# Altium schematic symbol library AIRZAI_BASE_BD_REVA.SCHLIB: 43 symbols
Pins are listed as number, name and electrical type; pins without a type are passive.

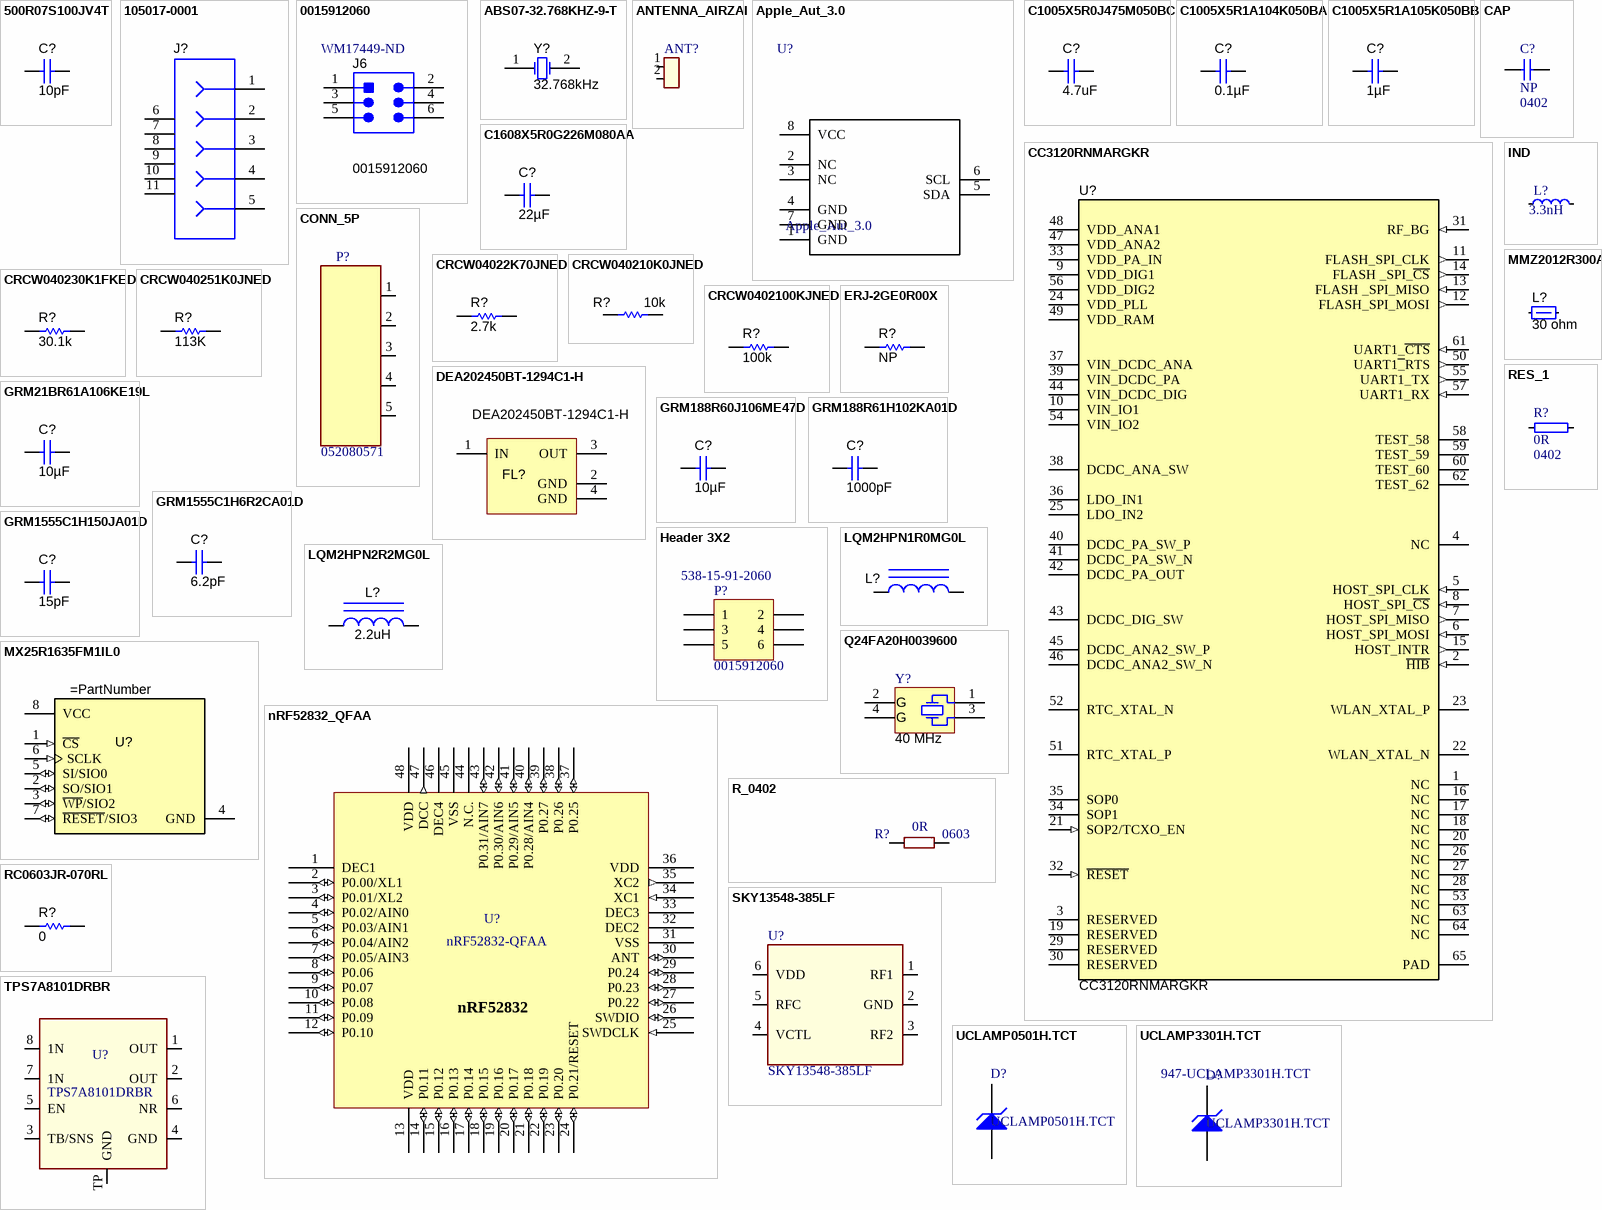
[diagram p0: symbols 500R07S100JV4T to UCLAMP3301H.TCT]

## 500R07S100JV4T
designator C?  ValueDisplayed: 10pF
CAP, CERM, 10 pF, 50 V, +/- 5%, C0G/NP0, 0402; Manufacturer Part Number: 500R07S100JV4T; Manufacturer: Johanson Technology; Value: 10pF; Tolerance_%: 5; VDC_V: 50; Value2: 50V
footprint SM0402_BTD.1SM_ACT_H55_CAP_WSS
pins: 1, 2

## 105017-0001
designator J?  (value not drawn)
Connector, Receptacle, Micro-USB Type B, R/A, Bottom Mount SMT; Manufacturer: Molex; SymbolCreator: a0412235; U/M: EA; SymbolVersion: 2012-12-19; PartNumber: 105017-0001; PackageReference: Micro USB receptacle; CompType: Receptacle; RoHS: Y; MountType: SMT; ComponentLink1Description: Datasheet Link; ComponentLink1URL: http://www.molex.com/pdm_docs/sd/1050170001_sd.pdf; Publisher: Texas Instruments; LatestRevisionDate: 2015-06-05; Supplier 1: Digi-Key; Supplier Part Number 1: WM1399CT-ND; Supplier 2: Mouser; Supplier Part Number 2: 538-105017-0001; Supplier 3: Farnell; Supplier Part Number 3: 1847433
footprint CONN_105017-0001
pins: 1, 2, 3, 4, 5, 6, 7, 8, 9, 10, 11

## 0015912060
designator J6  Supplier Part Number 1: WM17449-ND
CONN HEADER SMD 6POS 2.54MM; Manufacturer: Molex; Number of Positions: 6; Gender: Male; Max Voltage Rating (AC): 250V; Connector Type: Male Pin; Row Spacing: 0.1inch; PartNumber: 0015912060; ComponentLink1Description: Datasheet URL; ComponentLink1URL: https://www.samtec.com/ftppub/cpdf/FTSH-1XX-XX-XXX-D-XX-MKT.pdf; Supplier 1: Digi-Key; Manufacturer Part Number: 0015912060; Stock 1: 16201; Pricing 1: 1=0.59, 10=0.549, 100=0.4209, 500=0.366, 1000=0.30195, 5000=0.26535, 10000=0.24705 (USD); Mount: Surface Mount; Contact Plating: Bright,Tin; Contact Material: Bronze; Housing Color: Black; Housing Material: Polymer; Color: Black; Min Operating Temperature: -40°C; Max Operating Temperature: 105°C; Packaging: Bulk; Number of Rows: 2; Termination: Solder; Number of Contacts: 6; Orientation: Straight; Length: 7.62mm; Pitch: 2.54mm; Contact Mating Length: 0.24inch; Depth: 5.08mm; ComponentLink2URL: https://media.digikey.com/pdf/Data%20Sheets/Molex%20PDFs/PK-70873-0041_Pkg_Dwg.pdf?src-supplier=Digi-Key; ComponentLink2Description: https://media.digikey.com/pdf/Data%20Sheets/Molex%20PDFs/PK-70873-0041_Pkg_Dwg.pdf?src-supplier=Digi-Key
footprint Molex_15-91-2060_0
pins: 1, 2, 3, 4, 5, 6

## ABS07-32.768KHZ-9-T
designator Y?  Frequency: 32.768kHz  (hidden comment: ABS07-32.768KHZ-9-T)
CRYSTAL, 32.768KHZ, 9PF, SMD; Manufacturer: Abracon Corportation; SymbolCreator: a0412235; U/M: EA; TaMin_C: -40; TaMax_C: 85; Frequency Stability: ±20ppm; SymbolVersion: 2008-07-09; PartNumber: ABS07-32.768KHZ-9-T; CompType: Crystal; PackageReference: 3.2x0.9x1.5mm; MountType: SMT; RoHS: Y; ComponentLink1Description: Datasheet Link; ComponentLink1URL: http://www.abracon.com/Resonators/ABS07.pdf; Publisher: Texas Instruments; LatestRevisionDate: 2015-02-16; Supplier 1: Digi-Key; Supplier Part Number 1: 535-9544-1-ND; Supplier 2: Mouser; Supplier Part Number 2: 815-ABS07-32.768K9T; Supplier 3: Farnell; Supplier Part Number 3: 2101346
footprint XTAL_ABS07
pins: 1 OSC1, 2 OSC2

## ANTENNA_AIRZAI
designator ANT?
Footprint: ANTENNA_AIRZAI; Note: *
footprint ANTENNA_AIRZAI
pins: 1 +, 2 -

## Apple_Aut_3.0
designator U?
Apple Authentication 3.0 Coprocessor
footprint *SOT65P210X110-6N
pins: 1 GND, 2 NC, 3 NC, 4 GND, 5 SDA, 6 SCL, 7 GND, 8 VCC (power)

## C1005X5R0J475M050BC
designator C?  value 4.7uF  (hidden comment: C1005X5R0J475M050BC)
CAP, CERM, 4.7 µF, 6.3 V, +/- 20%, X5R, 0402; Manufacturer: TDK; PartNumber: C1005X5R0J475M050BC
footprint SM0402_BTD.1SM_ACT_H55_CAP_WSS
pins: 1, 2

## C1005X5R1A104K050BA
designator C?  ValueDisplayed: 0.1µF  (hidden comment: C1005X5R1A104K050BA)
CAP, CERM, 0.1 µF, 10 V, +/- 10%, X5R, 0402; Manufacturer: TDK; Polarized: N; CompType: Capacitor; Value: 0.1uF; U/M: EA; Cap_F: 0.0000001; Tolerance_%: 10; Value1: Unknown; Value2: 10V; TaMin_C: -55; TaMax_C: 85; Cap_Case: 0402; SymbolVersion: 2008-07-09; PartNumber: C1005X5R1A104K050BA; PackageReference: 0402; RoHS: Y; VDC_V: 10; MountType: SMT; Technology: Ceramic; TempCo: X5R; Published: 2008-06-19; Publisher: Texas Instruments; LatestRevisionDate: 2015-02-23; ComponentLink1Description: Datasheet link; ComponentLink1URL: http://product.tdk.com/en/catalog/datasheets/mlcc_commercial_general_en.pdf; Supplier 1: Digi-Key; Supplier Part Number 1: 445-1265-1-ND; Supplier 2: Mouser; Supplier Part Number 2: 810-C1005X5R1A104K; Supplier 3: Farnell; Supplier Part Number 3: 2368215
footprint SM0402_BTD.1SM_ACT_H55_CAP_WSS
pins: 1, 2

## C1005X5R1A105K050BB
designator C?  ValueDisplayed: 1µF  (hidden comment: C1005X5R1A105K050BB)
CAP, CERM, 1 µF, 10 V, +/- 10%, X5R, 0402; Manufacturer: TDK; Polarized: N; CompType: Capacitor; Value: 1uF; U/M: EA; Cap_F: 0.000001; Tolerance_%: 10; Value1: Unknown; Value2: 10V; TaMin_C: -55; TaMax_C: 85; Cap_Case: 0402; SymbolVersion: 2008-07-09; PartNumber: C1005X5R1A105K050BB; PackageReference: 0402; RoHS: Y; VDC_V: 10; MountType: SMT; Technology: Ceramic; TempCo: X5R; Published: 2008-06-19; Publisher: Texas Instruments; LatestRevisionDate: 2015-02-23; ComponentLink1Description: Datasheet link; ComponentLink1URL: http://product.tdk.com/en/catalog/datasheets/mlcc_commercial_general_en.pdf; Supplier 1: Digi-Key; Supplier Part Number 1: 445-4114-1-ND; Supplier 2: Mouser; Supplier Part Number 2: 810-C1005X5R1A105K; Supplier 3: Farnell; Supplier Part Number 3: 2371912
footprint SM0402_BTD.1SM_ACT_H55_CAP_WSS
pins: 1, 2

## C1608X5R0G226M080AA
designator C?  ValueDisplayed: 22µF  (hidden comment: C1608X5R0G226M080AA)
CAP, CERM, 22 µF, 4 V, +/- 20%, X5R, 0603; Manufacturer: TDK; Polarized: N; CompType: Capacitor; Value: 22uF; U/M: EA; Cap_F: 0.000022; Tolerance_%: 20; Value1: Unknown; VDC_V: 4; Value2: 4V; TaMin_C: -55; TaMax_C: 85; Cap_Case: 0603; SymbolVersion: 2008-07-09; PartNumber: C1608X5R0G226M080AA; PackageReference: 0603; RoHS: Y; MountType: SMT; Technology: Ceramic; TempCo: X5R; Published: 2008-06-19; Publisher: Texas Instruments; LatestRevisionDate: 2015-02-23; ComponentLink1Description: Datasheet link; ComponentLink1URL: http://www.tdk.com/pdf/TDKMLCCCapRange.pdf; Supplier 1: Digi-Key; Supplier Part Number 1: 445-8030-1-ND
footprint SM0603_BTD.1SM_H90_WSS
pins: 1, 2

## CAP
designator C?, comment NP  Footprint: 0402
NOT POPULATED; Manufacturer: NOT POPULATED; Manufacturer Part Number: NOT POPULATED; Datasheet: *; Pin Count: 2; Value: NP; Note: NOT POPULATED; Supplier: *; Supplier part number: *; 2nd source Supplier: *; 2nd source part number: *
footprint SM0402_BTD.1SM_NP_H1
pins: 1, 2

## CC3120RNMARGKR
designator U?
SimpleLink Wi-Fi Network Processor, Internet-of-Things Solution for MCU Applications, RGK0064B (VQFN-64); Alternate PartNumber: CC3120RNMARGKT; Manufacturer: Texas Instruments; SymbolCreator: Altium; CompType: IC; U/M: EA; SizeArea_mm2: 81; SizeAreaWB_mm2: 121; SizeX_mm: 9; SizeZ_mm: 1; SymbolVersion: 2015-09-04; PartNumber: CC3120RNMARGKR; PackageReference: RGK0064B; MountType: SMT; ComponentLink1Description: Datasheet Link; ComponentLink1URL: https://sps06.itg.ti.com/sites/KMS/crossdivteams/altium/docs/ComponentDatasheets/CC3120_Advanced_Information_July2015.pdf; Publisher: Texas Instruments; LatestRevisionDate: 2016-11-18; Alternate Manufacturer: Texas Instruments; PackageDescription: VQFN-64; SizeY_mm: 9
footprint RGK0064B
pins: 1 NC, 2 ~{HIB} (in), 3 RESERVED, 4 NC, 5 HOST_SPI_CLK (in), 6 HOST_SPI_MOSI (in), 7 HOST_SPI_MISO (out), 8 HOST_SPI_~{CS} (in), 9 VDD_DIG1 (power), 10 VIN_IO1 (power), 11 FLASH_SPI_CLK (out), 12 FLASH_SPI_MOSI (out), 13 FLASH _SPI_MISO (in), 14 FLASH _SPI_~{CS} (out), 15 HOST_INTR (out), 16 NC, 17 NC, 18 NC, 19 RESERVED, 20 NC, 21 SOP2/TCXO_EN (in), 22 WLAN_XTAL_N, 23 WLAN_XTAL_P, 24 VDD_PLL (power), 25 LDO_IN2 (power), 26 NC, 27 NC, 28 NC, 29 RESERVED, 30 RESERVED, 31 RF_BG (in), 32 ~{RESET} (in), 33 VDD_PA_IN (power), 34 SOP1, 35 SOP0, 36 LDO_IN1 (power), 37 VIN_DCDC_ANA (power), 38 DCDC_ANA_SW (power), 39 VIN_DCDC_PA (power), 40 DCDC_PA_SW_P (power), 41 DCDC_PA_SW_N (power), 42 DCDC_PA_OUT (power), 43 DCDC_DIG_SW (power), 44 VIN_DCDC_DIG (power), 45 DCDC_ANA2_SW_P (power), 46 DCDC_ANA2_SW_N (power), 47 VDD_ANA2 (power), 48 VDD_ANA1 (power), 49 VDD_RAM (power), 50 UART1~{_}RTS (out), 51 RTC_XTAL_P, 52 RTC_XTAL_N, 53 NC, 54 VIN_IO2 (power), 55 UART1_TX (out), 56 VDD_DIG2 (power), 57 UART1_RX (in), 58 TEST_58, 59 TEST_59, 60 TEST_60, 61 UART1_~{CTS} (in), 62 TEST_62, 63 NC, 64 NC, 65 PAD (power)
1 alternate drawing of the same symbol

## CONN_5P
designator P?, comment 052080571
Manufacturer: MOLEX; Manufacturer Part Number: 052080571; Footprint: CON_052080571_5PIN; Value: 052080571
footprint CON_052080571_5PIN (MOLEX 5PIN)
pins: 1, 2, 3, 4, 5 4

## CRCW04022K70JNED
designator R?  ValueDisplayed: 2.7k  (hidden comment: CRCW04022K70JNED)
RES, 2.7 k, 5%, 0.063 W, 0402; Manufacturer: Vishay-Dale; CompType: Resistor; Value: 2.7k; Res_ohm: 2700; Value_Code: 2k70; Tolerance_%: 5; Power_W: 0.063; Value2: 0.063W; VDC_V: 50; TempCo: 200 ppm/C; EIA_Code: E24; U/M: EA; SizeArea_mm2: 0.5; SizeX_mm: 1; SizeZ_mm: 0.6; AEC Category: Q200; SymbolVersion: 2009-05-29; PartNumber: CRCW04022K70JNED; PackageReference: 0402; RoHS: Y; Value1: 5%; MountType: SMT; Technology: Thick Film; Published: 2008-06-26; Publisher: Texas Instruments; LatestRevisionDate: 2016-12-01; ComponentLink1Description: Datasheet link; ComponentLink1URL: http://www.vishay.com/docs/20035/dcrcwe3.pdf; Supplier 1: Digi-Key; Supplier Part Number 1: 541-2.7KJCT-ND; Supplier 2: Mouser; Supplier Part Number 2: 71-CRCW0402J-2.7K-E3; Supplier 3: Farnell; Supplier Part Number 3: 1563903; SizeY_mm: 0.5; AEC Qualified: ?
footprint SM0402_BTD.1SM_ACT
pins: 1, 2

## CRCW040210K0JNED
designator R?  ValueDisplayed: 10k  (hidden comment: CRCW040210K0JNED)
RES, 10 k, 5%, 0.063 W, 0402; Manufacturer: Vishay-Dale; CompType: Resistor; Value: 10k; Res_ohm: 10000; Value_Code: 10k0; Tolerance_%: 5; Power_W: 0.063; Value2: 0.063W; VDC_V: 50; TempCo: 200 ppm/C; EIA_Code: E24; U/M: EA; SymbolVersion: 2009-05-29; PartNumber: CRCW040210K0JNED; PackageReference: 0402; RoHS: Y; Value1: 5%; MountType: SMT; Technology: Thick Film; Published: 2008-06-26; Publisher: Texas Instruments; LatestRevisionDate: 2015-02-16; ComponentLink1Description: Datasheet link; ComponentLink1URL: http://www.vishay.com/docs/20035/dcrcwe3.pdf; Supplier 1: Digi-Key; Supplier Part Number 1: 541-10KJCT-ND; Supplier 2: Mouser; Supplier Part Number 2: 71-CRCW0402J-10K-E3; Supplier 3: Farnell; Supplier Part Number 3: 1514663
footprint SM0402_BTD.1SM_ACT
pins: 1, 2

## CRCW040230K1FKED
designator R?  ValueDisplayed: 30.1k  (hidden comment: CRCW040230K1FKED)
RES, 30.1 k, 1%, 0.063 W, 0402; Manufacturer: Vishay-Dale; CompType: Resistor; Value: 30.1k; Res_ohm: 30100; Value_Code: 30k1; Tolerance_%: 1; Power_W: 0.063; Value2: 0.063W; VDC_V: 50; TempCo: 100 ppm/C; EIA_Code: E96; U/M: EA; SymbolVersion: 2009-05-29; PartNumber: CRCW040230K1FKED; PackageReference: 0402; RoHS: Y; Value1: 1%; MountType: SMT; Technology: Thick Film; Published: 2008-06-26; Publisher: Texas Instruments; LatestRevisionDate: 2015-02-16; ComponentLink1Description: Datasheet link; ComponentLink1URL: http://www.vishay.com/docs/20035/dcrcwe3.pdf; Supplier 1: Digi-Key; Supplier Part Number 1: 541-30.1KLCT-ND; Supplier 2: Mouser; Supplier Part Number 2: 71-CRCW0402-30.1K-E3; Supplier 3: Farnell; Supplier Part Number 3: 1469704
footprint SM0402_BTD.1SM_ACT
pins: 1, 2

## CRCW040251K0JNED
designator R?  value 113K
RES, 51 k, 5%, 0.063 W, 0402; Manufacturer: Vishay-Dale; Footprint: SM0402_BTD.1SM_ACT
footprint SM0402_BTD.1SM_ACT
pins: 1, 2

## CRCW0402100KJNED
designator R?  ValueDisplayed: 100k  (hidden comment: CRCW0402100KJNED)
RES, 100 k, 5%, 0.063 W, 0402; Manufacturer: Vishay-Dale; CompType: Resistor; Value: 100k; Res_ohm: 100000; Tolerance_%: 5; Power_W: 0.063; Value2: 0.063W; VDC_V: 50; TempCo: 200 ppm/C; EIA_Code: E24; U/M: EA; SymbolVersion: 2009-05-29; PartNumber: CRCW0402100KJNED; PackageReference: 0402; RoHS: Y; Value_Code: 100k; Value1: 5%; MountType: SMT; Technology: Thick Film; Published: 2008-06-26; Publisher: Texas Instruments; LatestRevisionDate: 2015-02-16; ComponentLink1Description: Datasheet link; ComponentLink1URL: http://www.vishay.com/docs/20035/dcrcwe3.pdf; Supplier 1: Digi-Key; Supplier Part Number 1: 541-100KJCT-ND; Supplier 2: Mouser; Supplier Part Number 2: 71-CRCW0402J-100K-E3; Supplier 3: Farnell; Supplier Part Number 3: 1652738
footprint SM0402_BTD.1SM_ACT
pins: 1, 2

## DEA202450BT-1294C1-H
designator FL?
Multilayer Chip Band Pass Filter For 2.4GHz W-LAN/Bluetooth, SMD; Manufacturer: TDK; SymbolCreator: Altium; Value: 1.02 dB; SymbolVersion: 2015-01-04; PartNumber: DEA202450BT-1294C1-H; CompType: Filter; MountType: SMT; ComponentLink1Description: Datasheet Link; ComponentLink1URL: http://product.tdk.com/en/catalog/datasheets/rf_bpf_dea202450bt-1294c1-h_en.pdf; RoHS: Y; PackageReference: 2x1.25mm; Publisher: Texas Instruments; LatestRevisionDate: 2015-02-19; Supplier 1: Digi-Key; Supplier Part Number 1: 445-172335-1-ND; Supplier 2: Mouser; Supplier Part Number 2: 810-DEA202450BT1294C
footprint TDK_DEA202450BT-1294C1-H
pins: 1 IN, 2 GND (power), 3 OUT, 4 GND (power)

## ERJ-2GE0R00X
designator R?, comment NP
RES, 0, 5%, 0.063 W, 0402; PartNumber: ERJ-2GE0R00X; Manufacturer: Panasonic; CompType: Resistor; ValueDisplayed: 0; Value_Code: 0000; Tolerance_%: 5; Power_W: 0.063; Value2: 0.063W; VDC_V: 50; TempCo: 600 ppm/C; EIA_Code: E24; U/M: EA; SymbolVersion: 2009-05-29; Value: NP; PackageReference: SM0402_BTD.1SM_NP_H1; RoHS: Y; Res_ohm: 0; Value1: 5%; MountType: SMT; Technology: Thick Film; Published: 2008-06-26; Publisher: Texas Instruments; LatestRevisionDate: 2015-02-16; ComponentLink1Description: Datasheet link; ComponentLink1URL: http://www.panasonic.com/industrial/components/pdf/AOA0000CE1.pdf; Supplier 1: Digi-Key; Supplier Part Number 1: P0.0JCT-ND; Supplier 2: Mouser; Supplier Part Number 2: 667-ERJ-2GE0R00X; Supplier 3: Farnell; Supplier Part Number 3: 2059190
footprint SM0402_BTD.1SM_NP_H1
pins: 1, 2

## GRM21BR61A106KE19L
designator C?  ValueDisplayed: 10µF  (hidden comment: GRM21BR61A106KE19L)
CAP, CERM, 10 µF, 10 V, +/- 10%, X5R, 0805; Manufacturer: MuRata; Polarized: N; CompType: Capacitor; Value: 10uF; U/M: EA; Cap_F: 0.00001; Tolerance_%: 10; ESR_ohm: 0.002; Value1: 0.002 ohm; Value2: 10V; TaMin_C: -55; TaMax_C: 85; Cap_Case: 0805; SymbolVersion: 2008-07-09; PartNumber: GRM21BR61A106KE19L; PackageReference: 0805; RoHS: Y; VDC_V: 10; MountType: SMT; Technology: Ceramic; TempCo: X5R; Published: 2008-06-19; Publisher: Texas Instruments; LatestRevisionDate: 2015-02-23; ComponentLink1Description: Datasheet link; ComponentLink1URL: http://search.murata.co.jp/Ceramy/PnsearchViewAction.do?HnOFG=ON&HnNFG=ON&SEL_CNT=50&sLang=en&sKey=GRM21BR61A106KE19L&x=9&y=9&search=startwith; Supplier 1: Digi-Key; Supplier Part Number 1: 490-1709-1-ND; Supplier 2: Mouser; Supplier Part Number 2: 81-GRM21BR61A106KE19; Supplier 3: Farnell; Supplier Part Number 3: 1828805
signal-integrity model Cap
simulation model Cap
footprint 0805_HV
footprint 0805
footprint 0805M
footprint 0805L
pins: 1, 2

## GRM188R60J106ME47D
designator C?  ValueDisplayed: 10µF  (hidden comment: GRM188R60J106ME47D)
CAP, CERM, 10 µF, 6.3 V, +/- 20%, X5R, 0603; Manufacturer: MuRata; Polarized: N; CompType: Capacitor; Value: 10uF; U/M: EA; Cap_F: 0.00001; Tolerance_%: 20; ESR_ohm: 0.009; Value1: 0.009 ohm; VDC_V: 6.3; Value2: 6.3V; IRMS_A: 2.74; TaMin_C: -55; TaMax_C: 125; Cap_Case: 0603; SymbolVersion: 2008-07-09; PartNumber: GRM188R60J106ME47D; PackageReference: 0603; RoHS: Y; MountType: SMT; Technology: Ceramic; TempCo: X5R; Published: 2008-06-19; Publisher: Texas Instruments; LatestRevisionDate: 2015-02-23; ComponentLink1Description: Datasheet link; ComponentLink1URL: http://www.murata.com/products/capacitor/tech_data/pdf/grm188r60j106m.pdf; Supplier 1: Digi-Key; Supplier Part Number 1: 490-3896-1-ND; Supplier 2: Mouser; Supplier Part Number 2: 81-GRM188R60J106ME47; Supplier 3: Farnell; Supplier Part Number 3: 1735528
footprint SM0603_BTD.1SM_H90_WSS
pins: 1, 2

## GRM188R61H102KA01D
designator C?  ValueDisplayed: 1000pF  (hidden comment: GRM188R61H102KA01D)
CAP, CERM, 1000 pF, 50 V, +/- 10%, X5R, 0603; Manufacturer: MuRata; Polarized: N; CompType: Capacitor; Value: 1000pF; U/M: EA; Cap_F: 0.000000001; Tolerance_%: 10; Value1: Unknown; VDC_V: 50; Value2: 50V; TaMin_C: -55; TaMax_C: 85; Cap_Case: 0603; SymbolVersion: 2008-07-09; PartNumber: GRM188R61H102KA01D; PackageReference: 0603; RoHS: Y; MountType: SMT; Technology: Ceramic; TempCo: X5R; Published: 2008-06-19; Publisher: Texas Instruments; LatestRevisionDate: 2014-12-18; ComponentLink1Description: Datasheet link; ComponentLink1URL: http://search.murata.co.jp/Ceramy/PnsearchViewAction.do?HnOFG=ON&HnNFG=ON&SEL_CNT=50&sLang=en&sKey=GRM188R61H102KA01D&x=9&y=9&search=startwith; Supplier 1: Digi-Key; Supplier Part Number 1: GRM188R61H102KA01D-ND; Supplier 2: Mouser; Supplier Part Number 2: 81-GRM188R61H102KA1D
footprint SM0603_BTD.1SM_H90_WSS
pins: 1, 2

## GRM1555C1H6R2CA01D
designator C?  ValueDisplayed: 6.2pF  (hidden comment: GRM1555C1H6R2CA01D)
CAP, CERM, 6.2 pF, 50 V, +/- 5%, C0G/NP0, 0402; Manufacturer: MuRata; Polarized: N; CompType: Capacitor; Value: 6.2pF; U/M: EA; Cap_F: 0.0000000000062; Tolerance_%: 5; Value1: Unknown; VDC_V: 50; Value2: 50V; TaMin_C: -55; TaMax_C: 125; Cap_Case: 0402; SymbolVersion: 2008-07-09; PartNumber: GRM1555C1H6R2CA01D; PackageReference: 0402; RoHS: Y; MountType: SMT; Technology: Ceramic; TempCo: C0G/NP0; Published: 2008-06-19; Publisher: Texas Instruments; LatestRevisionDate: 2015-02-23; ComponentLink1Description: Datasheet link; ComponentLink1URL: http://search.murata.co.jp/Ceramy/PnsearchViewAction.do?HnOFG=ON&HnNFG=ON&SEL_CNT=50&sLang=en&sKey=GRM1555C1H6R2CA01D&x=9&y=9&search=startwith; Supplier 1: Mouser; Supplier Part Number 1: 81-GRM1555C1H6R2CA1D
footprint SM0402_BTD.1SM_ACT_H55_CAP_WSS
pins: 1, 2

## GRM1555C1H150JA01D
designator C?  ValueDisplayed: 15pF  (hidden comment: GRM1555C1H150JA01D)
CAP, CERM, 15 pF, 50 V, +/- 5%, C0G/NP0, 0402; Manufacturer: MuRata; Polarized: N; CompType: Capacitor; Value: 15pF; U/M: EA; Cap_F: 0.000000000015; Tolerance_%: 5; Value1: Unknown; VDC_V: 50; Value2: 50V; TaMin_C: -55; TaMax_C: 125; Cap_Case: 0402; SymbolVersion: 2008-07-09; PartNumber: GRM1555C1H150JA01D; PackageReference: 0402; RoHS: Y; MountType: SMT; Technology: Ceramic; TempCo: C0G/NP0; Published: 2008-06-19; Publisher: Texas Instruments; LatestRevisionDate: 2015-02-23; ComponentLink1Description: Datasheet link; ComponentLink1URL: http://search.murata.co.jp/Ceramy/PnsearchViewAction.do?HnOFG=ON&HnNFG=ON&SEL_CNT=50&sLang=en&sKey=GRM1555C1H150JA01D&x=9&y=9&search=startwith; Supplier 1: Mouser; Supplier Part Number 1: 81-GRM1555C1H150JA1D
footprint SM0402_BTD.1SM_ACT_H55_CAP_WSS
pins: 1, 2

## Header 3X2
designator P?, comment 0015912060  Supplier Part Number 1: 538-15-91-2060
Header, 3-Pin, Dual row; Manufacturer: Molex; Number of Positions: 6; Gender: Male; Max Voltage Rating (AC): 250V; Connector Type: Male Pin; Pitch: 2.54mm; Row Spacing: 0.1inch; Value: 0015912060; Supplier 1: Mouser; Manufacturer Part Number: 0015912060; Stock 1: 12899; Pricing 1: 1=0.53, 10=0.499, 50=0.399, 100=0.382, 1000=0.274, 10000=0.249 (USD); Mount: Surface Mount; Contact Plating: Bright,Tin; Contact Material: Bronze; Housing Color: Black; Housing Material: Polymer; Color: Black; Min Operating Temperature: -40°C; Max Operating Temperature: 105°C; Packaging: Bulk; Number of Rows: 2; Termination: Solder; Number of Contacts: 6; Orientation: Straight; Length: 7.62mm; Contact Mating Length: 0.24inch; Depth: 5.08mm; ComponentLink1URL: https://media.digikey.com/pdf/Data%20Sheets/Molex%20PDFs/PK-70873-0041_Pkg_Dwg.pdf?src-supplier=Digi-Key; ComponentLink1Description: https://media.digikey.com/pdf/Data%20Sheets/Molex%20PDFs/PK-70873-0041_Pkg_Dwg.pdf?src-supplier=Digi-Key
signal-integrity model Connector
footprint Molex_15-91-2060_0
pins: 1, 2, 3, 4, 5, 6

## IND
designator L?, comment 3.3nH
High frequency chip inductor ±5%; Manufacturer: JOHANSON; Manufacturer Part Number: L-07C3N3SV6T; Pin Count: 2; Value: 3.3nH; Note: High frequency chip inductor ±5%; Supplier: Digi-Key; 2nd source Supplier: *; 2nd source part number: *; Footprint Doc: 0402
footprint INDC1005X04L (Chip Inductor, 2-Leads, Body 1.0x0.5mm, IPC High Density)
pins: 1, 2

## LQM2HPN1R0MG0L
designator L?  (value not drawn)
Inductor, Multilayer, Ferrite, 1 µH, 1.6 A, 0.055 ohm, SMD; Manufacturer: MuRata; Value: 1uH; Ind_H: 1.0E-6; ValueDisplayed: 1µH; Imax_A: 1.6; Irms: 1.6A @ 40C rise; DCR_ohm: 0.055; Value2: 1.6A; SymbolVersion: 2008-07-23; CompType: Inductor; PartNumber: LQM2HPN1R0MG0L; Value1: 0.055 ohm; Technology: Multilayer; MountType: SMT; Material: Ferrite; PackageReference: SMD, Body 2.5x2mm, Height 1.2mm; Published: 2008-06-26; Publisher: Texas Instruments; LatestRevisionDate: 2015-03-02; ComponentLink1Description: Datasheet link; ComponentLink1URL: http://psearch.murata.com/inductor/product/LQM2HPN1R0MG0%23.pdf; RoHS: Y; Supplier 1: Digi-Key; Supplier Part Number 1: 490-5112-1-ND; Supplier 2: Mouser; Supplier Part Number 2: 81-LQM2HPN1R0MG0L
signal-integrity model Inductor
simulation model Inductor
footprint 1008
pins: 1, 2

## LQM2HPN2R2MG0L
designator L?  value 2.2uH  (hidden comment: LQM2HPN2R2MG0L)
Inductor, Multilayer, Ferrite, 2.2 µH, 1.3 A, 0.08 ohm, SMD; Manufacturer: MuRata; Ind_H: 2.2E-6; ValueDisplayed: 2.2µH; Imax_A: 1.3; Irms: 1.3A @ 40C rise; DCR_ohm: 0.08; Value2: 1.3A; SymbolVersion: 2008-07-23; CompType: Inductor; PartNumber: LQM2HPN2R2MG0L; Value1: 0.08 ohm; Technology: Multilayer; MountType: SMT; Material: Ferrite; PackageReference: SMD, Body 2.5x2mm, Height 1.2mm; Published: 2008-06-26; Publisher: Texas Instruments; LatestRevisionDate: 2014-11-24; ComponentLink1Description: Datasheet link; ComponentLink1URL: http://psearch.murata.com/inductor/product/LQM2HPN2R2MG0%23.pdf; RoHS: Y; Supplier 1: Digi-Key; Supplier Part Number 1: 490-5114-1-ND; Supplier 2: Mouser; Supplier Part Number 2: 81-LQM2HPN2R2MG0L
signal-integrity model Inductor
simulation model Inductor
footprint 1008
pins: 1, 2

## MMZ2012R300A
designator L?  value 30 ohm  (hidden comment: MMZ2012R300A)
Ferrite Bead, 30 ohm @ 100 MHz, 1.5 A, 0805; Manufacturer: TDK; Imax_A: 1.5; DCR_ohm: 0.05; Value1: 0.05 ohm; Value2: 1.5A; ZTyp@100MHz_Ohm: 30; CompType: Ferrite Bead; SymbolVersion: 2009-06-02; PartNumber: MMZ2012R300A; MountType: SMT; PackageReference: 0805; Published: 2014-04-30; Publisher: Texas Instruments; LatestRevisionDate: 2015-03-14; ComponentLink1Description: Datasheet link; ComponentLink1URL: http://www.tdk.co.jp/tefe02/e9412_mmz.pdf; RoHS: Y; Supplier 1: Digi-Key; Supplier Part Number 1: 445-2199-1-ND; Supplier 2: Mouser; Supplier Part Number 2: 810-MMZ2012R300A; Supplier 3: Farnell; Supplier Part Number 3: 1669723
footprint 0805_HV
footprint 0805
footprint 0805M
footprint 0805L
pins: 1, 2

## MX25R1635FM1IL0
designator U?
ULTRA LOW POWER, 16M-BIT [x 1/x 2/x 4] CMOS MXSMIO(SERIAL MULTI I/O) FLASH MEMORY, SOP-8; Manufacturer: Macronix International Co., LTD; Manufacturer Part Number: MX25R1635FZUIL0; Value: MX25R1635FZUIL0; Footprint: USON_8P_2X3; Note: *
footprint USON_8P_2X3
pins: 1 ~{CS} (in), 2 SO/SIO1 (io), 3 ~{WP}/SIO2 (io), 4 GND (power), 5 SI/SIO0 (io), 6 SCLK (in), 7 ~{RESET}/SIO3 (io), 8 VCC (power)

## nRF52832_QFAA
designator U?, comment nRF52832-QFAA
Multi-protocol Bluetooth Low Energy, ANT and 2.4GHz proprietary system-on-chip; Manufacturer: Nordic Semiconductor; Artikkelnr Noca: N.A.; Part Number: nRF52832-QFAA; Manufacturer Part Number: nRF52832-QFAA; Datasheet: *; LatestRevisionDate: 2014-11-26; Pin Count: 48; Publisher: Nordic Semiconductor; Published: 2014-11-26; Value: nRF52832-QFAA; Note: *; Supplier: Nordic Semiconductor; Supplier part number: *; 2nd source Supplier: *; 2nd source part number: *; Footprint Doc: QFN-48; Artikkelnr Simpro: N.A.
footprint QFN40P600X600X90-48N
pins: 1 DEC1 (power), 2 P0.00/XL1 (io), 3 P0.01/XL2 (io), 4 P0.02/AIN0 (io), 5 P0.03/AIN1 (io), 6 P0.04/AIN2 (io), 7 P0.05/AIN3 (io), 8 P0.06 (io), 9 P0.07 (io), 10 P0.08 (io), 11 P0.09 (io), 12 P0.10 (io), 13 VDD (power), 14 P0.11 (io), 15 P0.12 (io), 16 P0.13 (io), 17 P0.14 (io), 18 P0.15 (io), 19 P0.16 (io), 20 P0.17 (io), 21 P0.18 (io), 22 P0.19 (io), 23 P0.20 (io), 24 P0.21/RESET (io), 25 SWDCLK (in), 26 SWDIO (io), 27 P0.22 (io), 28 P0.23 (io), 29 P0.24 (io), 30 ANT (io), 31 VSS (power), 32 DEC2 (power), 33 DEC3 (power), 34 XC1 (in), 35 XC2 (out), 36 VDD (power), 37 P0.25 (io), 38 P0.26 (io), 39 P0.27 (io), 40 P0.28/AIN4 (io), 41 P0.29/AIN5 (io), 42 P0.30/AIN6 (io), 43 P0.31/AIN7 (io), 44 N.C. (power), 45 VSS (power), 46 DEC4 (power), 47 DCC (out), 48 VDD (power), 49 GND (power) hidden to GND
text: nRF52832

## Q24FA20H0039600
designator Y?  Frequency: 40 MHz  (hidden comment: Q24FA20H0039600)
Crystal, 40MHz, 8pF, SMD; Manufacturer: Epson; SymbolCreator: a0412235; U/M: EA; TaMin_C: -30; TaMax_C: 85; Frequency Stability: ±7ppm; SymbolVersion: 2011-08-23; PartNumber: Q24FA20H0039600; CompType: Crystal; PackageReference: 2.5x2mm; MountType: SMT; RoHS: Y; ComponentLink1Description: Datasheet Link; ComponentLink1URL: http://www.eea.epson.com/portal/pls/portal/docs/1/1729473.PDF; Publisher: Texas Instruments; LatestRevisionDate: 2015-06-08
footprint Epson_FA-20H
pins: 1, 2 GND (power), 3, 4 GND (power)
text: G

## R_0402
designator R?  value 0R  Footprint: 0603
footprint SM0603_BTD.1SM_H55_NSS
pins: 1, 2

## RC0603JR-070RL
designator R?  ValueDisplayed: 0  (hidden comment: RC0603JR-070RL)
RES, 0, 5%, 0.1 W, 0603; Manufacturer: Yageo America; CompType: Resistor; Value: 0; Value_Code: 0000; Tolerance_%: 5; Power_W: 0.1; Value2: 0.1W; VDC_V: 50; TempCo: 200 ppm/C; EIA_Code: E24; U/M: EA; SymbolVersion: 2009-05-29; PartNumber: RC0603JR-070RL; PackageReference: 0603; RoHS: Y; Res_ohm: 0; Value1: 5%; MountType: SMT; Technology: Thick Film; Published: 2008-06-26; Publisher: Texas Instruments; LatestRevisionDate: 2014-12-16; ComponentLink1Description: Datasheet link; ComponentLink1URL: http://www.yageo.com/pdf/Pu-RC0603_51_PbFree_L_2.pdf; Supplier 1: Digi-Key; Supplier Part Number 1: 311-0.0GRCT-ND; Supplier 2: Mouser; Supplier Part Number 2: 603-RC0603JR-070RL; Supplier 3: Farnell; Supplier Part Number 3: 9233130
footprint SM0402_BTD.1SM_ACT
pins: 1, 2

## RES_1
designator R?, comment 0R  Footprint: 0402
Resistor, ±1%, 0.063W; Manufacturer: Panasonic; Manufacturer Part Number: ERJ-2GE0R00X; Note: 0.1W JUMPER; Datasheet: *; Pin Count: 2; Value: 0R; 2nd source Supplier: *; 2nd source part number: *
footprint SM0402_BTD.1SM_ACT
pins: 1, 2

## SKY13548-385LF
designator U?
Manufacturer: SKYWORKS; Manufacturer Part Number: SKY13350-385LF; Footprint: QFN6_1X1; Note: *; Value: SKY13548-385LF
footprint QFN6_1X1
pins: 1 RF1, 2 GND, 3 RF2, 4 VCTL, 5 RFC, 6 VDD

## TPS7A8101DRBR
designator U?
Manufacturer: TI; Footprint: VSON_8P_3X3; Manufacturer Part Number: TPS7A8101DRBR; Note: *; Value: TPS7A8101DRBR
footprint VSON_8P_3X3
pins: 1 OUT, 2 OUT, 3 TB/SNS, 4 GND, 5 EN, 6 NR, 7 1N, 8 1N, TP GND

## UCLAMP0501H.TCT
designator D?
TVS DIODE 5V 12.5V SOD523; Manufacturer: Semtech; Capacitance: 160pF; Number of Channels: 1; Direction: Unidirectional; Reverse Breakdown Voltage: 6V; Peak Pulse Power: 240W; Power Line Protection: No; Leakage Current: 5uA; Peak Pulse Current: 16A; Test Current: 1mA; Element Configuration: Single; ComponentLink1URL: https://www.semtech.com/uploads/documents/uclamp3301h.pdf?src-supplier=Digi-Key; ComponentLink1Description: https://www.semtech.com/uploads/documents/uclamp3301h.pdf?src-supplier=Digi-Key; ComponentLink2URL: https://www.verical.com/server-webapp/html/getDatasheet?partID=141337&src-supplier=Verical; ComponentLink2Description: https://www.verical.com/server-webapp/html/getDatasheet?partID=141337&src-supplier=Verical; ComponentLink3URL: http://www.semtech.com/images/datasheet/uclamp3301h.pdf?src-supplier=Avnet; ComponentLink3Description: http://www.semtech.com/images/datasheet/uclamp3301h.pdf?src-supplier=Avnet; PartNumber: UCLAMP0501H.TCT; Supplier 1: Digi-Key; Manufacturer Part Number: UCLAMP0501H.TCT; Stock 1: 63859; Pricing 1: 1=0.65, 10=0.568, 25=0.5028, 100=0.438, 250=0.38124, 500=0.32446, 1000=0.25956 (USD); Mount: Surface Mount; Number of Pins: 2; Min Operating Temperature: -55°C; Max Operating Temperature: 125°C; Packaging: Tape and Reel; Number of Elements: 1; Number of Unidirectional Channels: 1; Reverse Standoff Voltage: 5V; Min Breakdown Voltage: 6V; Clamping Voltage: 12.5V; Max Breakdown Voltage: 6V; Working Voltage: 5V; Polarity: Unidirectional; Breakdown Voltage: 6V; Max Power Dissipation: 240W; Voltage Rating (DC): 5V; Composition: Zener; Length: 1.3mm; Depth: 0.9mm; Width: 900um; Radiation Hardening: No; REACH SVHC: No SVHC; Lead Free: Lead Free; ComponentLink4URL: http://www.semtech.com/images/datasheet/uclamp0501h.pdf?src-supplier=Future+Electronics; ComponentLink4Description: http://www.semtech.com/images/datasheet/uclamp0501h.pdf?src-supplier=Future+Electronics; ComponentLink5URL: https://www.verical.com/server-webapp/html/getDatasheet?partID=51047&src-supplier=Verical; ComponentLink5Description: https://www.verical.com/server-webapp/html/getDatasheet?partID=51047&src-supplier=Verical; ComponentLink6URL: http://www.semtech.com/images/datasheet/uclamp0501h.pdf?src-supplier=Digi-Key; ComponentLink6Description: http://www.semtech.com/images/datasheet/uclamp0501h.pdf?src-supplier=Digi-Key; ComponentLink7URL: https://www.semtech.com/uploads/documents/uclamp0501h.pdf?src-supplier=Digi-Key; ComponentLink7Description: https://www.semtech.com/uploads/documents/uclamp0501h.pdf?src-supplier=Digi-Key; ComponentLink8URL: http://www.semtech.com/images/datasheet/uclamp0501h.pdf?src-supplier=Element14; ComponentLink8Description: http://www.semtech.com/images/datasheet/uclamp0501h.pdf?src-supplier=Element14; ComponentLink9URL: http://www.farnell.com/datasheets/1796175.pdf?src-supplier=Element14; ComponentLink9Description: http://www.farnell.com/datasheets/1796175.pdf?src-supplier=Element14; ComponentLink10URL: http://www.semtech.com/images/datasheet/uclamp0501h.pdf?src-supplier=Avnet; ComponentLink10Description: http://www.semtech.com/images/datasheet/uclamp0501h.pdf?src-supplier=Avnet; Supplier Part Number 1: UCLAMP0501HDKR-ND
footprint DIODE-0.7 (Diode, Thru-Hole; 2 Leads; 0.7 in Pin Spacing)
simulation model ZENER (Diode)
signal-integrity model D Zener
pins: A, K

## UCLAMP3301H.TCT
designator D?  Supplier Part Number 1: 947-UCLAMP3301H.TCT
TVS DIODE 3.3V 8V SOD523; Manufacturer: Semtech; Direction: Unidirectional; Capacitance: 30pF; Number of Channels: 1; Min Breakdown Voltage: 3.5V; Peak Pulse Power: 40W; Power Line Protection: No; Leakage Current: 500nA; Peak Pulse Current: 5A; Element Configuration: Single; Supplier 1: Mouser; Manufacturer Part Number: UCLAMP3301H.TCT; Stock 1: 89004; Pricing 1: 1=0.71, 10=0.554, 50=0.554, 100=0.357, 1000=0.286, 10000=0.225 (USD); Mount: Surface Mount; Number of Pins: 2; Min Operating Temperature: -55°C; Max Operating Temperature: 125°C; Packaging: Tape and Reel; Number of Elements: 1; Number of Unidirectional Channels: 1; Reverse Standoff Voltage: 3.3V; Clamping Voltage: 8V; Polarity: Unidirectional; Working Voltage: 3.3V; Max Power Dissipation: 40W; Voltage Rating (DC): 3.3V; Operating Supply Voltage: 3.3V; Composition: Zener; Length: 1.3mm; Depth: 0.9mm; Width: 900um; Thickness: 700um; Radiation Hardening: No; REACH SVHC: No SVHC; Lead Free: Lead Free; ComponentLink1URL: https://www.semtech.com/uploads/documents/uclamp3301h.pdf?src-supplier=Digi-Key; ComponentLink1Description: https://www.semtech.com/uploads/documents/uclamp3301h.pdf?src-supplier=Digi-Key; ComponentLink2URL: https://www.verical.com/server-webapp/html/getDatasheet?partID=141337&src-supplier=Verical; ComponentLink2Description: https://www.verical.com/server-webapp/html/getDatasheet?partID=141337&src-supplier=Verical; ComponentLink3URL: http://www.semtech.com/images/datasheet/uclamp3301h.pdf?src-supplier=Avnet; ComponentLink3Description: http://www.semtech.com/images/datasheet/uclamp3301h.pdf?src-supplier=Avnet; PartNumber: UCLAMP3301H.TCT
footprint DIODE-0.7 (Diode, Thru-Hole; 2 Leads; 0.7 in Pin Spacing)
simulation model ZENER (Diode)
signal-integrity model D Zener
pins: A, K

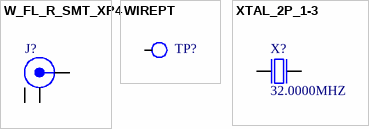
[diagram p1: symbols W_FL_R_SMT_XP4 to XTAL_2P_1-3]

## W_FL_R_SMT_XP4
designator J?  (value not drawn)
footprint W_FL_R_SMT_XP4_NP (NO SOLDER PASTE)
pins: 1 CENTER, 2 SHIELD, 3

## WIREPT
designator TP?  (value not drawn)
footprint TP_0.9MM (0.9MM DIA TESTPOINT)
pins: 1

## XTAL_2P_1-3
designator X?, comment 32.0000MHZ
XTAL SMD; Manufacturer: MURATA; Manufacturer Part Number: XRCGB32M000F1H00R0; Note: CRYSTAL 32.0000MHZ 6PF SMD; Footprint: XTL_XRCGB32M000F1H00R0; Value: 32.0000MHZ
footprint XTL_XRCGB32M000F1H00R0
pins: 1 inp, 3 out